# Altium footprint library SamacSys.PcbLib: 9 footprints
Each footprint in its own frame and in the unit in brackets; x right, y up, seen from the top. Pads: shape width x height; smd on the part's side, far side on the other; paste and mask are expansions set on the pad; w line width, h text height; cw(c..) or ccw(c..) is an arc to the next point about the centre after c.
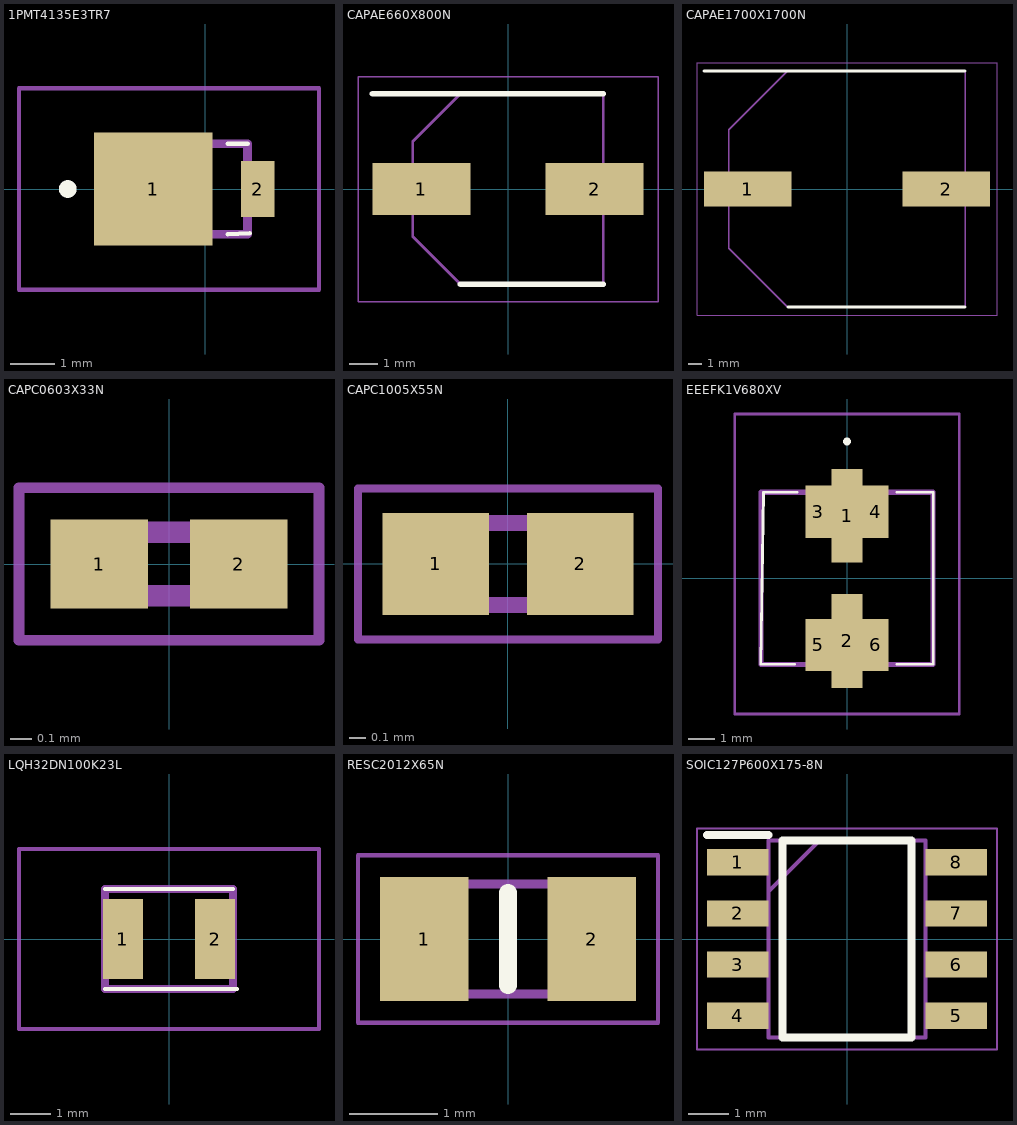
[diagram p0: the footprints below, top view; thin cyan lines are the x and y axes]

## 1PMT4135E3TR7 [mm]
pads (2):
  rect 2.67x2.54 smd: 1(-1.178,0)
  rect 0.76x1.27 smd: 2(1.177,0)
Top Overlay:
  lines w0.1: 0.5,-1.02 1,-1 ; 0.5,1.02 0.95,1.02
  lines w0.2: -3.2,0 ccw(c-3.1,0) -3,0 ccw(c-3.1,0) -3.2,0
Mechanical 13:
  lines w0.2: -0.95,-1.02 -0.95,1.02 0.95,1.02 0.95,-1.02 -0.95,-1.02
Mechanical 15:
  lines w0.1: -4.2,-2.27 -4.2,2.27 2.558,2.27 2.558,-2.27 -4.2,-2.27

## CAPAE660X800N [mm]
pads (2):
  rect 3.4x1.8 smd: 1(-3,0) 2(3,0)
Top Overlay:
  lines w0.2: -4.7,3.3 3.3,3.3 ; -1.65,-3.3 3.3,-3.3
Mechanical 13:
  lines w0.1: -3.3,-1.65 -3.3,1.65 -1.65,3.3 3.3,3.3 3.3,-3.3 -1.65,-3.3 -3.3,-1.65
Mechanical 15:
  lines w0.05: -5.2,-3.9 5.2,-3.9 5.2,3.9 -5.2,3.9 -5.2,-3.9
3D body "EEE-FK1H470XP.stp": height 8, standoff 0, extent -3.9,-3.4 3.9,3.4

## CAPAE1700X1700N [mm]
pads (2):
  rect 6.3x2.5 smd: 1(-7.15,0) 2(7.15,0)
Top Overlay:
  lines w0.2: -10.3,8.5 8.5,8.5 ; -4.25,-8.5 8.5,-8.5
Mechanical 13:
  lines w0.1: -8.5,-4.25 -4.25,-8.5 8.5,-8.5 8.5,8.5 -4.25,8.5 -8.5,4.25 -8.5,-4.25
Mechanical 15:
  lines w0.05: -10.8,-9.1 -10.8,9.1 10.8,9.1 10.8,-9.1 -10.8,-9.1
3D body "EEE-TP1K391V.stp": height 17, standoff 0, extent -9.5,-8.6 9.5,8.6

## CAPC0603X33N [mm]
pads (2):
  rect 0.46x0.42 smd: 1(-0.33,0) 2(0.33,0)
Mechanical 13:
  lines w0.1: -0.3,-0.15 -0.3,0.15 0.3,0.15 0.3,-0.15 -0.3,-0.15
Mechanical 15:
  lines w0.05: -0.71,-0.36 -0.71,0.36 0.71,0.36 0.71,-0.36 -0.71,-0.36
3D body "GRM0335C2A4R3BA01D.stp": height 0.33, standoff 0, extent -0.3,-0.15 0.3,0.15

## CAPC1005X55N [mm]
pads (2):
  rect 0.65x0.62 smd: 1(-0.44,0) 2(0.44,0)
Mechanical 13:
  lines w0.1: -0.5,-0.25 0.5,-0.25 0.5,0.25 -0.5,0.25 -0.5,-0.25
Mechanical 15:
  lines w0.05: -0.915,-0.46 0.915,-0.46 0.915,0.46 -0.915,0.46 -0.915,-0.46
3D body "C0402C439B5GACTU.stp": height 0.55, standoff 0, extent -0.5,-0.25 0.5,0.25

## EEEFK1V680XV [mm]
pads (6):
  rect 1.2x3.6 smd: 1(0,2.4) 2(0,-2.4)
  rect 1x2 smd: 3(-1.1,2.55) 4(1.1,2.55) 5(-1.1,-2.55) 6(1.1,-2.55)
Top Overlay:
  lines w0.1: -2,-3.3 -3.3,-3.3 -3.2,3.3 -1.9,3.3 ; 1.9,-3.3 3.3,-3.3 3.3,3.3 1.9,3.3
  lines w0.2: 0,5.2 cw(c0,5.25) 0,5.3 ; 0,5.2 ccw(c0,5.25) 0,5.3 ; 0,5.2 cw(c0,5.25) 0,5.3
Mechanical 13:
  lines w0.2: -3.3,-3.3 3.3,-3.3 3.3,3.3 -3.3,3.3 -3.3,-3.3
Mechanical 15:
  lines w0.1: -4.3,-5.2 4.3,-5.2 4.3,6.3 -4.3,6.3 -4.3,-5.2
3D body "EEE-FK1V680XV.stp": height 8.4, standoff 0, extent -3.3,-4.08 3.3,4.08

## LQH32DN100K23L [mm]
pads (2):
  rect 1x2 smd: 1(-1.15,0) 2(1.15,0)
Top Overlay:
  lines w0.1: -1.6,-1.25 1.7,-1.25 ; -1.6,1.25 1.6,1.25
Mechanical 13:
  lines w0.2: -1.6,-1.25 -1.6,1.25 1.6,1.25 1.6,-1.25 -1.6,-1.25
Mechanical 15:
  lines w0.1: -3.75,-2.25 -3.75,2.25 3.75,2.25 3.75,-2.25 -3.75,-2.25
3D body "LQH32NZ150J23L.stp": height 2.2, standoff 0, extent -1.6,-1.25 1.6,1.25

## RESC2012X65N [mm]
pads (2):
  rect 1x1.4 smd: 1(-0.95,0) 2(0.95,0)
Top Overlay:
  lines w0.2: 0,-0.525 0,0.525
Mechanical 13:
  lines w0.1: -1,-0.625 -1,0.625 1,0.625 1,-0.625 -1,-0.625
Mechanical 15:
  lines w0.05: -1.7,-0.95 -1.7,0.95 1.7,0.95 1.7,-0.95 -1.7,-0.95
3D body "RQ73C2A86R6BTDF.stp": height 0.65, standoff 0, extent -1,-0.625 1,0.625

## SOIC127P600X175-8N [mm]
pads (8):
  rect 1.525x0.65 smd: 1(-2.712,1.905) 2(-2.712,0.635) 3(-2.712,-0.635) 4(-2.712,-1.905) 5(2.712,-1.905) 6(2.712,-0.635) 7(2.712,0.635) 8(2.712,1.905)
Top Overlay:
  lines w0.2: -3.475,2.58 -1.95,2.58 ; -1.6,-2.45 1.6,-2.45 1.6,2.45 -1.6,2.45 -1.6,-2.45
Mechanical 13:
  lines w0.1: -1.95,1.18 -0.68,2.45 ; -1.95,-2.45 1.95,-2.45 1.95,2.45 -1.95,2.45 -1.95,-2.45
Mechanical 15:
  lines w0.05: -3.725,-2.75 3.725,-2.75 3.725,2.75 -3.725,2.75 -3.725,-2.75
3D body "NE555DR.stp": height 1.75, standoff 0, extent -3,-2.45 3,2.45